# Altium integrated library RFD.IntLib: 1 symbol
Pins are listed as number, name and electrical type; pins without a type are passive.

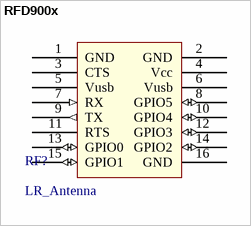
[diagram p0: symbol RFD900x]

## RFD900x
designator RF?, comment LR_Antenna
footprint RFD900X_HS_D (Heatsink Down)
footprint RFD900X_HS_U (Heatsink Up)
pins: 1 GND, 2 GND, 3 CTS, 4 Vcc (power), 5 Vusb (power), 6 Vusb (power), 7 RX (in), 8 GPIO5 (io), 9 TX (out), 10 GPIO4 (io), 11 RTS, 12 GPIO3 (io), 13 GPIO0 (io), 14 GPIO2 (io), 15 GPIO1 (io), 16 GND